# EAGLE library part RFM69W (library RFM RADIOS)
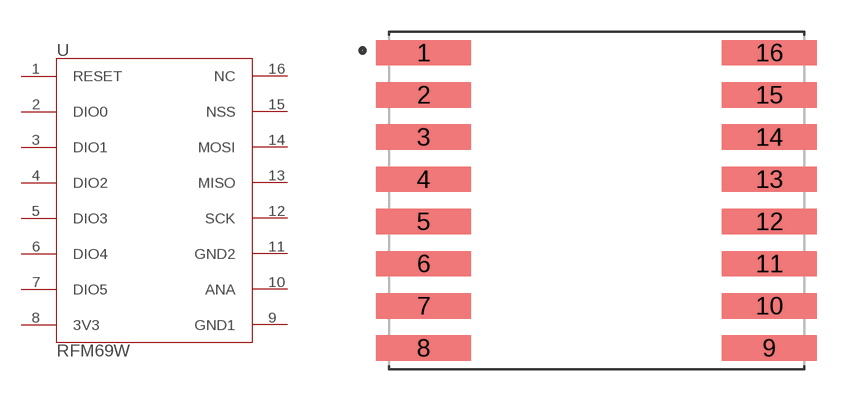
[diagram p1: symbol with the pads of RFM69W; footprint RFM69W]

Designator prefix -

## RFM69W  [RFM69W]
1  RESET
2  DIO0
3  DIO1
4  DIO2
5  DIO3
6  DIO4
7  DIO5
8  3V3
9  GND1
10  ANA
11  GND2
12  SCK
13  MISO
14  MOSI
15  NSS
16  NC

## Footprint RFM69W (pad centres in mm)
smd 4.5 x 1.2: 1 -8.2,7; 2 -8.2,5; 3 -8.2,3; 4 -8.2,1; 5 -8.2,-1; 6 -8.2,-3; 7 -8.2,-5; 8 -8.2,-7; 9 8.2,-7; 10 8.2,-5; 11 8.2,-3; 12 8.2,-1; 13 8.2,1; 14 8.2,3; 15 8.2,5; 16 8.2,7